# EAGLE library part HIH6030-021-001 (library sensors)
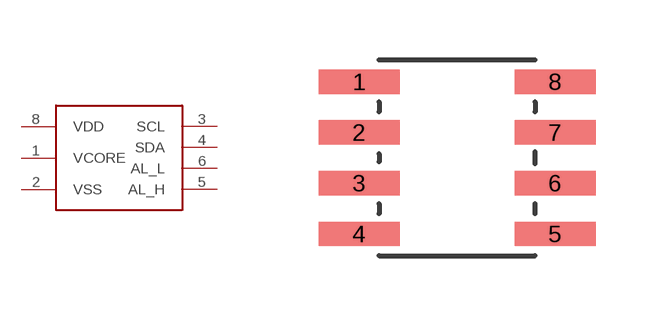
[diagram p1: symbol with the pads of SOIC8; footprint SOIC8]

Designator prefix -

## HIH6030-021-001  [SOIC8]
1  VCORE
2  VSS
3  SCL
4  SDA
5  AL_H
6  AL_L
8  VDD

## Footprint SOIC8 (pad centres in mm)
smd 2.03 x 0.61: 1 -2.45,1.905; 2 -2.45,0.635; 3 -2.45,-0.635; 4 -2.45,-1.905; 5 2.45,-1.905; 6 2.45,-0.635; 7 2.45,0.635; 8 2.45,1.905